# Altium footprint library Transistor.PcbLib: 58 footprints (part 4 of 4)
Each footprint in its own frame and in the unit in brackets; x right, y up, seen from the top. Pads: shape width x height; smd on the part's side, far side on the other; paste and mask are expansions set on the pad; w line width, h text height; cw(c..) or ccw(c..) is an arc to the next point about the centre after c.
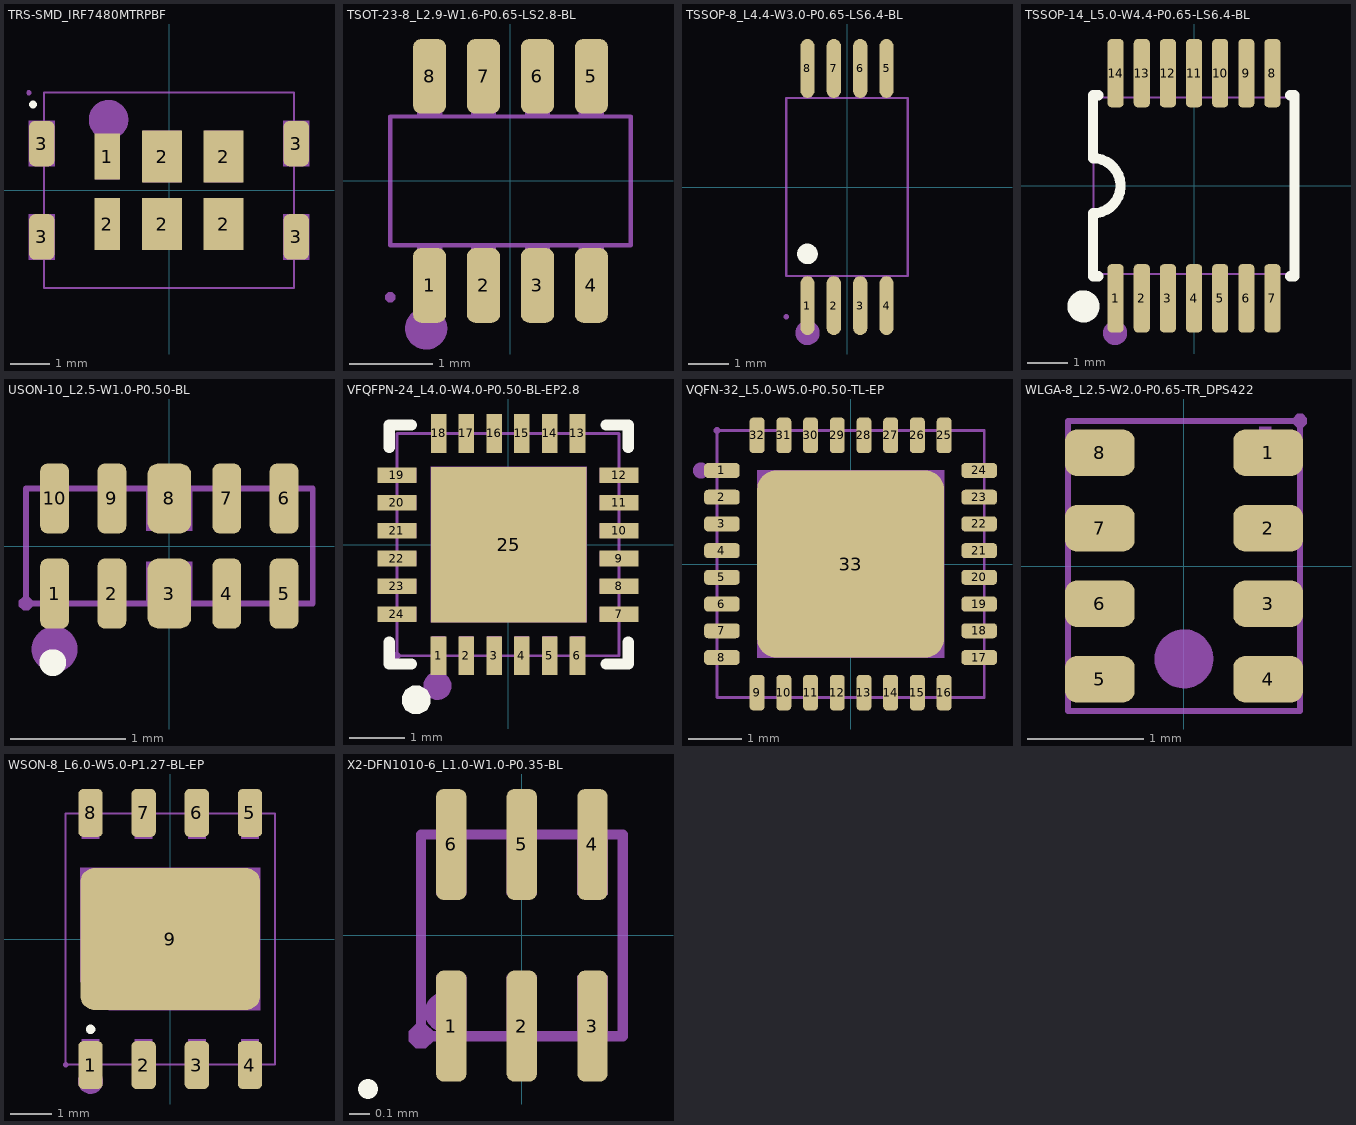
[diagram p3: the footprints below, top view; thin cyan lines are the x and y axes]

## TRS-SMD_IRF7480MTRPBF [mil] "IRF7480MTRPBF"
pads (10):
  rect 25.6x45.3 smd mask+2: 1(-61.2,33.5)
  rect 25.6x51.2 smd mask+2: 2(-61.2,-33.5)
  rect 39.4x51.2 smd mask+2: 2(-6.9,-33.5) 2(-6.9,33.5) 2(54.1,-33.5) 2(54.1,33.5)
  rrect50% 25.6x45.3 smd mask+2: 3(-126.2,-46.3) 3(-126.2,46.3) 3(126.2,-46.3) 3(126.2,46.3)
Top Overlay:
  circle w8: c-135,85 r0
Mechanical 6:
  circle w19.7: c-60,70 r9.8
Mechanical 15:
  region: -136.6,96.9 -136.6,97.89 -138.01,99.3 -139.99,99.3 -141.4,97.89 -141.4,96.9 -141.4,95.91 -139.99,94.5 -138.01,94.5 -136.6,95.91 -136.6,96.9
  region: -139,68.9 -113.4,68.9 -113.4,23.6 -139,23.6
  region: -139,-23.6 -113.4,-23.6 -113.4,-68.9 -139,-68.9
  region: 113.4,-23.6 139,-23.6 139,-68.9 113.4,-68.9
  region: 113.4,68.9 139,68.9 139,23.6 113.4,23.6
  region: -25.6,59.1 11.8,59.1 11.8,7.9 -25.6,7.9
  region: 35.4,59.1 72.8,59.1 72.8,7.9 35.4,7.9
  region: 35.4,-7.9 72.8,-7.9 72.8,-59.1 35.4,-59.1
  region: -25.6,-7.9 11.8,-7.9 11.8,-59.1 -25.6,-59.1
  region: -73,-7.9 -49.4,-7.9 -49.4,-59.1 -73,-59.1
  region: -73,56.1 -49.4,56.1 -49.4,10.8 -73,10.8
  lines w2: -124,-96.8 124,-96.8 124,96.9 -124,96.9 -124,-96.8
3D body "3D_PCB2_2022-12-231111.step": height 30.02, standoff 0.89, extent -123.84,-96.28 124.16,96.61

## TSOT-23-8_L2.9-W1.6-P0.65-LS2.8-BL [mm]
pads (8):
  rrect50% 0.4x0.9 smd: 1(-0.975,-1.26) 2(-0.325,-1.26) 3(0.325,-1.26) 4(0.975,-1.26) 5(0.975,1.26) 6(0.325,1.26) 7(-0.325,1.26) 8(-0.975,1.26)
Mechanical 6:
  circle w0.254: c-1.016,-1.778 r0.127
Mechanical 15:
  region: -1.125,-1.4 -1.125,-0.95 -0.825,-0.95 -0.825,-1.4
  region: -1.125,-0.96 -1.125,-0.765 -0.825,-0.765 -0.825,-0.96
  region: -0.475,-1.4 -0.475,-0.95 -0.175,-0.95 -0.175,-1.4
  region: -0.475,-0.96 -0.475,-0.765 -0.175,-0.765 -0.175,-0.96
  region: 0.175,-1.4 0.175,-0.95 0.475,-0.95 0.475,-1.4
  region: 0.175,-0.96 0.175,-0.765 0.475,-0.765 0.475,-0.96
  region: 0.825,-1.4 0.825,-0.95 1.125,-0.95 1.125,-1.4
  region: 0.825,-0.96 0.825,-0.765 1.125,-0.765 1.125,-0.96
  region: 0.825,0.95 0.825,1.4 1.125,1.4 1.125,0.95
  region: 0.825,0.765 0.825,0.96 1.125,0.96 1.125,0.765
  region: 0.175,0.95 0.175,1.4 0.475,1.4 0.475,0.95
  region: 0.175,0.765 0.175,0.96 0.475,0.96 0.475,0.765
  region: -0.475,0.95 -0.475,1.4 -0.175,1.4 -0.175,0.95
  region: -0.475,0.765 -0.475,0.96 -0.175,0.96 -0.175,0.765
  region: -1.125,0.95 -1.125,1.4 -0.825,1.4 -0.825,0.95
  region: -1.125,0.765 -1.125,0.96 -0.825,0.96 -0.825,0.765
  region: -1.39,-1.4 -1.39,-1.375 -1.425,-1.34 -1.475,-1.34 -1.51,-1.375 -1.51,-1.4 -1.51,-1.425 -1.475,-1.46 -1.425,-1.46 -1.39,-1.425 -1.39,-1.4
  lines w0.051: -1.45,-0.775 1.45,-0.775 1.45,0.775 -1.45,0.775 -1.45,-0.775
3D body "TSOT-8.step": height 1, standoff 0, extent -1.45,-1.4 1.45,1.4

## TSSOP-8_L4.4-W3.0-P0.65-LS6.4-BL [mm]
pads (8):
  oval 0.353x1.454 smd mask+0.051: 1(-0.975,-2.927) 2(-0.325,-2.927) 3(0.325,-2.927) 4(0.975,-2.927) 5(0.975,2.927) 6(0.325,2.927) 7(-0.325,2.927) 8(-0.975,2.927)
Top Overlay:
  circle w0.254: c-0.975,-1.651 r0.127
Mechanical 6:
  circle w0.3: c-0.975,-3.6 r0.15
Mechanical 15:
  region: 0.865,2.71 0.865,2.19 1.085,2.19 1.085,2.71
  region: 0.865,3.2 0.865,2.7 1.085,2.7 1.085,3.2
  region: 0.215,2.71 0.215,2.19 0.435,2.19 0.435,2.71
  region: 0.215,3.2 0.215,2.7 0.435,2.7 0.435,3.2
  region: -0.435,2.71 -0.435,2.19 -0.215,2.19 -0.215,2.71
  region: -0.435,3.2 -0.435,2.7 -0.215,2.7 -0.215,3.2
  region: -1.085,2.71 -1.085,2.19 -0.865,2.19 -0.865,2.71
  region: -1.085,3.2 -1.085,2.7 -0.865,2.7 -0.865,3.2
  region: 0.865,-2.71 0.865,-2.19 1.085,-2.19 1.085,-2.71
  region: 0.865,-3.2 0.865,-2.7 1.085,-2.7 1.085,-3.2
  region: 0.215,-2.71 0.215,-2.19 0.435,-2.19 0.435,-2.71
  region: 0.215,-3.2 0.215,-2.7 0.435,-2.7 0.435,-3.2
  region: -0.435,-2.71 -0.435,-2.19 -0.215,-2.19 -0.215,-2.71
  region: -0.435,-3.2 -0.435,-2.7 -0.215,-2.7 -0.215,-3.2
  region: -1.085,-2.71 -1.085,-2.19 -0.865,-2.19 -0.865,-2.71
  region: -1.085,-3.2 -1.085,-2.7 -0.865,-2.7 -0.865,-3.2
  region: -1.44,-3.2 -1.44,-3.175 -1.475,-3.14 -1.525,-3.14 -1.56,-3.175 -1.56,-3.2 -1.56,-3.225 -1.525,-3.26 -1.475,-3.26 -1.44,-3.225 -1.44,-3.2
  lines w0.051: -1.5,-2.2 1.5,-2.2 1.5,2.2 -1.5,2.2 -1.5,-2.2
3D body "TSSOP-08.stp": height 1.11, standoff 0.01, extent -1.249,-3.215 1.249,3.215

## TSSOP-14_L5.0-W4.4-P0.65-LS6.4-BL [mm]
pads (14):
  rrect50% 0.4x1.7 smd mask+0.051: 1(-1.95,-2.8) 2(-1.3,-2.8) 3(-0.65,-2.8) 4(0,-2.8) 5(0.65,-2.8) 6(1.3,-2.8) 7(1.95,-2.8) 8(1.95,2.8) 9(1.3,2.8) 10(0.65,2.8) 11(0,2.8) 12(-0.65,2.8) 13(-1.3,2.8) 14(-1.95,2.8)
Top Overlay:
  circle w0.4: c-2.75,-3 r0.2
  lines w0.254: -2.515,-2.25 -2.515,-1.6 -2.515,-0.686 ccw(c-2.515,0) -2.515,0.686 -2.515,1.6 -2.515,2.25 ; -2.5,-2.25 -2.384,-2.25 ; -2.5,2.25 -2.384,2.25 ; 2.384,-2.25 2.5,-2.25 2.5,2.25 2.384,2.25
Mechanical 6:
  circle w0.3: c-1.964,-3.662 r0.15
Mechanical 15:
  drawing of 33 lines, arcs and shapes, not listed
3D body "TSSOP-14 0.65p 4.4mm.step": height 1, standoff 0, extent -2.5,-3.15 2.5,3.15

## USON-10_L2.5-W1.0-P0.50-BL [mm]
pads (10):
  rrect50% 0.25x0.609 smd paste+0.051 mask+0: 1(-1,-0.415) 2(-0.5,-0.415) 4(0.5,-0.415) 5(1,-0.415) 6(1,0.415) 7(0.5,0.415) 9(-0.5,0.415) 10(-1,0.415)
  rrect50% 0.38x0.609 smd paste+0.051 mask+0: 3(0,-0.415) 8(0,0.415)
Top Overlay:
  circle w0.2: c-1.016,-1.016 r0.016
Mechanical 2:
  circle w0.2: c-1,-0.9 r0.1
Mechanical 6:
  lines w0.051: -1.25,-0.5 -1.25,0.5 1.25,0.5 1.25,-0.5 -1.25,-0.5
Mechanical 8:
  region: -1.19,-0.5 -1.19,-0.525 -1.225,-0.56 -1.275,-0.56 -1.31,-0.525 -1.31,-0.5 -1.31,-0.475 -1.275,-0.44 -1.225,-0.44 -1.19,-0.475 -1.19,-0.5
Mechanical 9:
  region: -0.2,-0.5 -0.2,-0.135 0.2,-0.135 0.2,-0.5
  region: 0.2,0.5 0.2,0.135 -0.2,0.135 -0.2,0.5
  region: -1.1,-0.135 -0.9,-0.135 -0.9,-0.5 -1.1,-0.5
  region: -0.6,-0.135 -0.4,-0.135 -0.4,-0.5 -0.6,-0.5
  region: 0.4,-0.135 0.6,-0.135 0.6,-0.5 0.4,-0.5
  region: 0.9,-0.135 1.1,-0.135 1.1,-0.5 0.9,-0.5
  region: -1.1,0.5 -0.9,0.5 -0.9,0.135 -1.1,0.135
  region: -0.6,0.5 -0.4,0.5 -0.4,0.135 -0.6,0.135
  region: 0.4,0.5 0.6,0.5 0.6,0.135 0.4,0.135
  region: 0.9,0.5 1.1,0.5 1.1,0.135 0.9,0.135

## VFQFPN-24_L4.0-W4.0-P0.50-BL-EP2.8 [mm]
pads (25):
  rect 0.28x0.7 smd paste-100 mask+0.051: 1(-1.25,-2) 2(-0.75,-2) 3(-0.25,-2) 4(0.25,-2) 5(0.75,-2) 6(1.25,-2) 13(1.25,2) 14(0.75,2) 15(0.25,2) 16(-0.25,2) 17(-0.75,2) 18(-1.242,2)
  rect 0.7x0.28 smd paste-100 mask+0.051: 7(2,-1.25) 8(2,-0.75) 9(2,-0.25) 10(2,0.25) 11(2,0.75) 12(2,1.25) 19(-2,1.25) 20(-2,0.75) 21(-2,0.25) 22(-2,-0.25) 23(-2,-0.75) 24(-2,-1.25)
  rect 2.8x2.8 smd paste-100 mask+0.051: 25(0.013,0)
Top Overlay:
  region: -1.397,-2.792 -1.398,-2.724 -1.466,-2.607 -1.584,-2.539 -1.72,-2.54 -1.838,-2.608 -1.905,-2.726 -1.905,-2.861 -1.838,-2.979 -1.72,-3.047 -1.584,-3.048 -1.466,-2.98 -1.398,-2.863 -1.397,-2.795
  lines w0.2: -2.137,-1.75 -2.137,-2.15 -1.737,-2.15 ; -2.137,1.75 -2.137,2.15 -1.737,2.15 ; 1.763,-2.15 2.163,-2.15 2.163,-1.75 ; 1.763,2.15 2.163,2.15 2.163,1.75
Top Paste:
  region: -1.107,-1.12 -1.107,1.12 1.133,1.12 1.133,-1.12
  region: -0.39,-1.65 -0.39,-2.35 -0.11,-2.35 -0.11,-1.65
  region: -0.61,-2.35 -0.61,-1.65 -0.89,-1.65 -0.89,-2.35
  region: 0.11,-1.65 0.11,-2.35 0.39,-2.35 0.39,-1.65
  region: 0.61,-1.65 0.61,-2.35 0.89,-2.35 0.89,-1.65
  region: 1.11,-1.65 1.11,-2.35 1.39,-2.35 1.39,-1.65
  region: -1.11,-2.35 -1.11,-1.65 -1.39,-1.65 -1.39,-2.35
  region: 1.65,-1.11 1.65,-1.39 2.35,-1.39 2.35,-1.11
  region: -1.65,-1.39 -1.65,-1.11 -2.35,-1.11 -2.35,-1.39
  region: 1.65,-0.61 1.65,-0.89 2.35,-0.89 2.35,-0.61
  region: -2.35,-0.61 -2.35,-0.89 -1.65,-0.89 -1.65,-0.61
  region: 1.65,-0.11 1.65,-0.39 2.35,-0.39 2.35,-0.11
  region: -1.65,-0.39 -1.65,-0.11 -2.35,-0.11 -2.35,-0.39
  region: -2.35,0.39 -2.35,0.11 -1.65,0.11 -1.65,0.39
  region: 1.65,0.39 1.65,0.11 2.35,0.11 2.35,0.39
  region: -1.65,0.61 -1.65,0.89 -2.35,0.89 -2.35,0.61
  region: 1.65,0.89 1.65,0.61 2.35,0.61 2.35,0.89
  region: 1.65,1.39 1.65,1.11 2.35,1.11 2.35,1.39
  region: -1.65,1.11 -1.65,1.39 -2.35,1.39 -2.35,1.11
  region: -1.102,1.65 -1.102,2.35 -1.382,2.35 -1.382,1.65
  region: -0.61,1.65 -0.61,2.35 -0.89,2.35 -0.89,1.65
  region: -0.11,1.65 -0.11,2.35 -0.39,2.35 -0.39,1.65
  region: 0.39,1.65 0.39,2.35 0.11,2.35 0.11,1.65
  region: 0.89,1.65 0.89,2.35 0.61,2.35 0.61,1.65
  region: 1.39,1.65 1.39,2.35 1.11,2.35 1.11,1.65
Mechanical 6:
  circle w0.254: c-1.27,-2.54 r0.127
Mechanical 15:
  region: -1.387,-1.4 -1.387,1.4 1.413,1.4 1.413,-1.4
  region: -1.125,-2 -1.375,-2 -1.375,-1.65 -1.125,-1.65
  region: -0.625,-2 -0.875,-2 -0.875,-1.65 -0.625,-1.65
  region: -0.125,-2 -0.375,-2 -0.375,-1.65 -0.125,-1.65
  region: 0.375,-2 0.125,-2 0.125,-1.65 0.375,-1.65
  region: 0.875,-2 0.625,-2 0.625,-1.65 0.875,-1.65
  region: 1.375,-2 1.125,-2 1.125,-1.65 1.375,-1.65
  region: 2,-1.125 2,-1.375 1.65,-1.375 1.65,-1.125
  region: 2,-0.625 2,-0.875 1.65,-0.875 1.65,-0.625
  region: 2,-0.125 2,-0.375 1.65,-0.375 1.65,-0.125
  region: 2,0.375 2,0.125 1.65,0.125 1.65,0.375
  region: 2,0.875 2,0.625 1.65,0.625 1.65,0.875
  region: 2,1.375 2,1.125 1.65,1.125 1.65,1.375
  region: 1.375,1.65 1.125,1.65 1.125,2 1.375,2
  region: 0.875,1.65 0.625,1.65 0.625,2 0.875,2
  region: 0.375,1.65 0.125,1.65 0.125,2 0.375,2
  region: -0.125,1.65 -0.375,1.65 -0.375,2 -0.125,2
  region: -0.625,1.65 -0.875,1.65 -0.875,2 -0.625,2
  region: -1.117,1.65 -1.367,1.65 -1.367,2 -1.117,2
  region: -1.65,1.375 -1.65,1.125 -2,1.125 -2,1.375
  region: -1.65,0.875 -1.65,0.625 -2,0.625 -2,0.875
  region: -1.65,0.375 -1.65,0.125 -2,0.125 -2,0.375
  region: -1.65,-0.125 -1.65,-0.375 -2,-0.375 -2,-0.125
  region: -1.65,-0.625 -1.65,-0.875 -2,-0.875 -2,-0.625
  region: -1.65,-1.125 -1.65,-1.375 -2,-1.375 -2,-1.125
  region: -1.94,-2 -1.94,-1.975 -1.975,-1.94 -2.025,-1.94 -2.06,-1.975 -2.06,-2 -2.06,-2.025 -2.025,-2.06 -1.975,-2.06 -1.94,-2.025 -1.94,-2
  lines w0.051: -2,-2 2,-2 2,2 -2,2 -2,-2

## VQFN-32_L5.0-W5.0-P0.50-TL-EP [mm]
pads (33):
  rrect50% 0.665x0.28 smd paste-100 mask+0.051: 1(-2.407,1.75) 2(-2.407,1.25) 3(-2.407,0.75) 4(-2.407,0.25) 5(-2.407,-0.25) 6(-2.407,-0.75) 7(-2.407,-1.25) 8(-2.407,-1.75) 17(2.407,-1.75) 18(2.407,-1.25) 19(2.407,-0.75) 20(2.407,-0.25) 21(2.407,0.25) 22(2.407,0.75) 23(2.407,1.25) 24(2.407,1.75)
  rrect50% 0.28x0.665 smd paste-100 mask+0.051: 9(-1.75,-2.407) 10(-1.25,-2.407) 11(-0.75,-2.407) 12(-0.25,-2.407) 13(0.25,-2.407) 14(0.75,-2.407) 15(1.25,-2.407) 16(1.75,-2.407) 25(1.75,2.407) 26(1.25,2.407) 27(0.75,2.407) 28(0.25,2.407) 29(-0.25,2.407) 30(-0.75,2.407) 31(-1.25,2.407) 32(-1.75,2.407)
  rrect20% 3.5x3.5 smd paste-100 mask+0.051: 33(0,0)
Top Paste:
  drawing of 33 lines, arcs and shapes, not listed
Mechanical 6:
  circle w0.15: c-2.8,1.75 r0.075
Mechanical 15:
  drawing of 38 lines, arcs and shapes, not listed
3D body "User Library-VQFN-32.STEP": height 1.01, standoff 0, extent -2.56,-2.56 2.56,2.56

## WLGA-8_L2.5-W2.0-P0.65-TR_DPS422 [mm]
pads (8):
  rrect50% 0.6x0.4 smd paste+0 mask+0.051: 1(0.725,0.975) 2(0.725,0.325) 3(0.725,-0.325) 4(0.725,-0.975) 5(-0.725,-0.975) 6(-0.725,-0.325) 7(-0.725,0.325) 8(-0.725,0.975)
Mechanical 6:
  circle w0.254: c0,-0.8 r0.127
  region: 0.65,1.2 0.65,0.8 0.75,0.8 0.75,1.2
Mechanical 15:
  region: 1.06,1.25 1.06,1.275 1.025,1.31 0.975,1.31 0.94,1.275 0.94,1.25 0.94,1.225 0.975,1.19 1.025,1.19 1.06,1.225 1.06,1.25
  region: -0.9,-0.825 -0.55,-0.825 -0.55,-1.125 -0.9,-1.125
  region: -0.9,-0.175 -0.55,-0.175 -0.55,-0.475 -0.9,-0.475
  region: -0.9,0.475 -0.55,0.475 -0.55,0.175 -0.9,0.175
  region: -0.9,1.125 -0.55,1.125 -0.55,0.825 -0.9,0.825
  region: 0.55,-0.825 0.9,-0.825 0.9,-1.125 0.55,-1.125
  region: 0.55,-0.175 0.9,-0.175 0.9,-0.475 0.55,-0.475
  region: 0.55,0.475 0.9,0.475 0.9,0.175 0.55,0.175
  region: 0.55,1.125 0.9,1.125 0.9,0.825 0.55,0.825
  lines w0.051: -1,-1.25 1,-1.25 1,1.25 -1,1.25 -1,-1.25
3D body "BMP280.SLDPRT": height 0.97, standoff 0, extent -0.984,-1.25 1.016,1.25

## WSON-8_L6.0-W5.0-P1.27-BL-EP [mil]
pads (9):
  rrect40% 22.87x45 smd mask+2: 1(-75,-118.61) 2(-25,-118.61) 3(25,-118.61) 4(75,-118.61) 5(75,118.61) 6(25,118.61) 7(-25,118.61) 8(-75,118.61)
  rrect20% 169.29x133.86 smd mask+2: 9(0,0)
Top Overlay:
  circle w7.87: c-75,-85 r0.53
Mechanical 6:
  circle w11.81: c-75,-133.86 r5.91
Mechanical 15:
  region: -96.06,-118.11 -96.06,-117.13 -97.44,-115.75 -99.4,-115.75 -100.78,-117.13 -100.78,-118.11 -100.78,-119.09 -99.4,-120.47 -97.44,-120.47 -96.06,-119.09 -96.06,-118.11
  region: -83.17,-118.11 -83.17,-94.49 -66.83,-94.49 -66.83,-118.11
  region: -33.17,-118.11 -33.17,-94.49 -16.83,-94.49 -16.83,-118.11
  region: 16.83,-118.11 16.83,-94.49 33.17,-94.49 33.17,-118.11
  region: 66.83,-118.11 66.83,-94.49 83.17,-94.49 83.17,-118.11
  region: -83.17,118.11 -83.17,94.49 -66.83,94.49 -66.83,118.11
  region: -33.17,118.11 -33.17,94.49 -16.83,94.49 -16.83,118.11
  region: 16.83,118.11 16.83,94.49 33.17,94.49 33.17,118.11
  region: 66.83,118.11 66.83,94.49 83.17,94.49 83.17,118.11
  region: -84.65,-40.16 -84.65,66.93 84.65,66.93 84.65,-66.93 -57.87,-66.93
  lines w2: -98.42,-118.11 -98.42,118.11 98.42,118.11 98.42,-118.11 -98.42,-118.11
3D body "WSON8-6x5.STEP": height 30.32, standoff 0, extent -98.43,-118.5 98.42,118.5

## X2-DFN1010-6_L1.0-W1.0-P0.35-BL [mm]
pads (6):
  rrect50% 0.15x0.55 smd: 1(-0.35,-0.45) 2(0,-0.45) 3(0.35,-0.45) 4(0.35,0.45) 5(0,0.45) 6(-0.35,0.45)
Top Overlay:
  circle w0.1: c-0.762,-0.762 r0
Mechanical 6:
  circle w0.1: c-0.381,-0.381 r0.05
Mechanical 15:
  region: -0.275,0.2 -0.425,0.2 -0.425,0.5 -0.275,0.5
  region: 0.075,0.2 -0.075,0.2 -0.075,0.5 0.075,0.5
  region: 0.425,0.2 0.275,0.2 0.275,0.5 0.425,0.5
  region: 0.425,-0.5 0.275,-0.5 0.275,-0.2 0.425,-0.2
  region: 0.075,-0.5 -0.075,-0.5 -0.075,-0.2 0.075,-0.2
  region: -0.275,-0.5 -0.425,-0.5 -0.425,-0.2 -0.275,-0.2
  region: -0.44,-0.5 -0.44,-0.475 -0.475,-0.44 -0.525,-0.44 -0.56,-0.475 -0.56,-0.5 -0.56,-0.525 -0.525,-0.56 -0.475,-0.56 -0.44,-0.525 -0.44,-0.5
  lines w0.051: -0.5,-0.5 0.5,-0.5 0.5,0.5 -0.5,0.5 -0.5,-0.5